# Altium footprint library RFID主控板-MFC5221.PcbLib: 11 footprints
Each footprint in its own frame and in the unit in brackets; x right, y up, seen from the top. Pads: shape width x height; smd on the part's side, far side on the other; paste and mask are expansions set on the pad; w line width, h text height; cw(c..) or ccw(c..) is an arc to the next point about the centre after c.
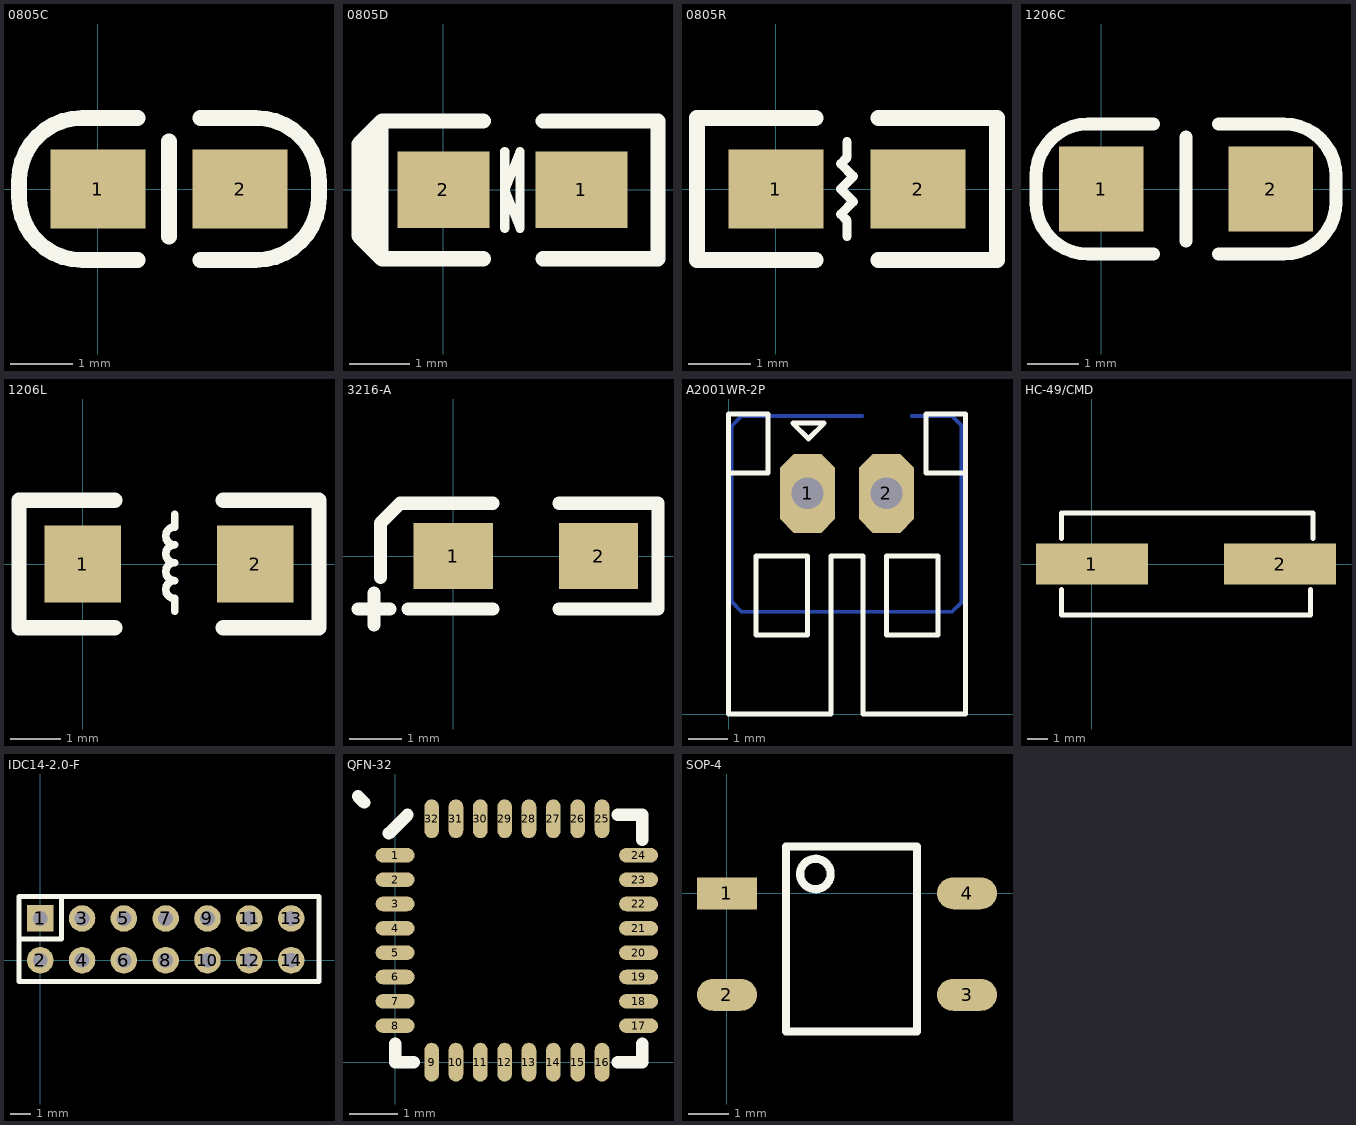
[diagram p0: the footprints below, top view; thin cyan lines are the x and y axes]

## 0805C [mil]
height 47.24
pads (2):
  rect 60x50 smd: 1(0,0) 2(90,0)
Top Overlay:
  lines w10: 25,-45 -10,-45 cw(c-10,-5) -50,-5 -50,5 cw(c-10,5) -10,45 25,45 ; 45,-30 45,30 ; 65,-45 100,-45 ccw(c100,-5) 140,-5 140,5 ccw(c100,5) 100,45 65,45
3D body: height 30.79, standoff 0, extent 5.63,-24.21 84.37,25

## 0805D [mil]
height 47.24
pads (2):
  rect 60x50 smd: 1(90,0) 2(0,0)
Top Overlay:
  rectangle: -55.75,-28.82 -45.75,31.18
  rectangle: -50,-40 -45,40
  rectangle: -47.15,-43.82 -40.75,39.78
  rectangle: -40.75,-43.82 -35.75,46.18
  lines w6: 40,-25 40,25 ; 40,0 50,25 50,-25 40,0
  lines w10: 26,-45 -40,-45 -55,-30 -55,30 -40,45 26,45 ; 65,-45 140,-45 140,45 65,45
3D body: height 33.45, standoff 0.23, extent 5,-17.46 86.2,18.22

## 0805R [mil]
height 47.24
pads (2):
  rect 60x50 smd: 1(0,0) 2(90,0)
Top Overlay:
  lines w6: 45,-30 45,-20 41,-16 49,-8 41,0 49,8 41,16 45,20 45,30
  lines w10: 25,-45 -50,-45 -50,45 25,45 ; 65,-45 140,-45 140,45 65,45
3D body: height 23.62, standoff 0, extent 5,-25 87.68,28.15

## 1206C [mil]
height 47.24
pads (2):
  rect 65x65 smd: 1(0,0) 2(130,0)
Top Overlay:
  lines w10: 40,-50 -10,-50 cw(c-10,-10) -50,-10 -50,10 cw(c-10,10) -10,50 40,50 ; 65,-40 65,40 ; 90,-50 140,-50 ccw(c140,-10) 180,-10 180,10 ccw(c140,10) 140,50 90,50
3D body: height 39.45, standoff 0, extent 2.01,-30 127.99,32.99

## 1206L [mil]
pads (2):
  rect 60x60 smd: 1(0,0) 2(135,0)
Top Overlay:
  lines w6: 72,-37 72,-27 cw(c72,-20) 72,-13 cw(c72,-6) 72,1 cw(c72,8) 72,15 cw(c72,22) 72,29 72,39
  lines w12: 25,-50 -50,-50 -50,50 25,50 ; 110,-50 185,-50 185,50 110,50
3D body: height 39.45, standoff 0, extent 2.01,-32.99 127.99,30

## 3216-A [mil]
height 47.24
pads (2):
  rect 60x50 smd: 1(0,0) 2(110,0)
Top Overlay:
  lines w10: -72,-40 -48,-40 ; -60,-52 -60,-28 ; -55,-16 -55,25 -40,40 30,40 ; -34,-40 30,-40 ; 80,-40 155,-40 155,40 80,40
3D body: height 62.99, standoff 0, extent -3.99,-30.99 121.99,32

## A2001WR-2P [mm] "用于RFID天线的插座封装"
height 1.2
pads (2):
  oct 1.4x2 hole 0.8: 1(2,5.588) 2(4,5.588)
Bottom Layer:
  lines w0.1: 3.378,7.544 0.33,7.544 0.076,7.29 0.076,2.845 0.33,2.591 5.664,2.591 5.9,2.827 5.9,7.308 5.664,7.544 4.648,7.544
Top Overlay:
  lines w0.127: 0,6.1 1,6.1 1,7.6 0,7.6 0,0 2.6,0 2.6,4 3.4,4 3.4,0 6,0 6,7.6 5,7.6 5,6.1 6,6.1 ; 1.627,7.367 2.025,6.969 2.423,7.368 ; 1.651,7.368 2.399,7.368 ; 0.7,2 0.7,4 2,4 2,2 0.7,2 ; 4,2 5.3,2 5.3,4 4,4 4,2

## HC-49/CMD [mil]
pads (2):
  rect 220x80 smd: 1(0,0) 2(370,0)
Top Overlay:
  lines w10: -60,-50 -60,-100 430,-100 430,-50 ; -60,50 -60,100 ; -55,100 435,100 435,50
3D body: height 99.21, standoff 0, extent -110.28,-90 480.28,87.17

## IDC14-2.0-F [mm] "针型封装"
pads (14):
  rect 1.27x1.27 hole 0.711: 1(0,2)
  round 1.27 hole 0.711: 2(0,0) 3(2,2) 4(2,0) 5(4,2) 6(4,0) 7(6,2) 8(6,0) 9(8,2) 10(8,0) 11(10,2) 12(10,0) 13(12,2) 14(12,0)
Top Overlay:
  lines w0.254: -1.016,1.016 1.016,1.016 1.016,3.023 ; -1.016,-1.016 -1.016,3.048 13.335,3.048 13.335,-1.016 -1.016,-1.016

## QFN-32 [mm]
height 2.64
pads (32):
  oval 0.8x0.3 smd: 1(0,4.25) 2(0,3.75) 3(0,3.25) 4(0,2.75) 5(0,2.25) 6(0,1.75) 7(0,1.25) 8(0,0.75) 17(5,0.75) 18(5,1.25) 19(5,1.75) 20(5,2.25) 21(5,2.75) 22(5,3.25) 23(5,3.75) 24(5,4.25)
  oval 0.3x0.8 smd: 9(0.75,0) 10(1.25,0) 11(1.75,0) 12(2.25,0) 13(2.75,0) 14(3.25,0) 15(3.75,0) 16(4.25,0) 25(4.25,5) 26(3.75,5) 27(3.25,5) 28(2.75,5) 29(2.25,5) 30(1.75,5) 31(1.25,5) 32(0.75,5)
Top Overlay:
  lines w0.254: -0.762,5.461 -0.635,5.334 ; -0.127,4.699 0.254,5.08 ; 0,0.381 0,0 0.381,0 ; 4.572,0 5.08,0 5.08,0.381 ; 4.572,5.08 5.08,5.08 5.08,4.572

## SOP-4 [mm] "AQY221N2S"
height 1.2
pads (4):
  rect 1.5x0.8 smd: 1(0,0)
  oval 1.5x0.8 smd: 2(0,-2.54) 3(6,-2.54) 4(6,0)
Top Overlay:
  circle w0.203: c2.21,0.483 r0.381
  lines w0.203: 1.473,-3.454 4.75,-3.454 4.75,1.168 1.473,1.168 1.473,-3.454